# Altium schematic symbol library Connectors.SchLib: 84 symbols
Pins are listed as number, name and electrical type; pins without a type are passive.

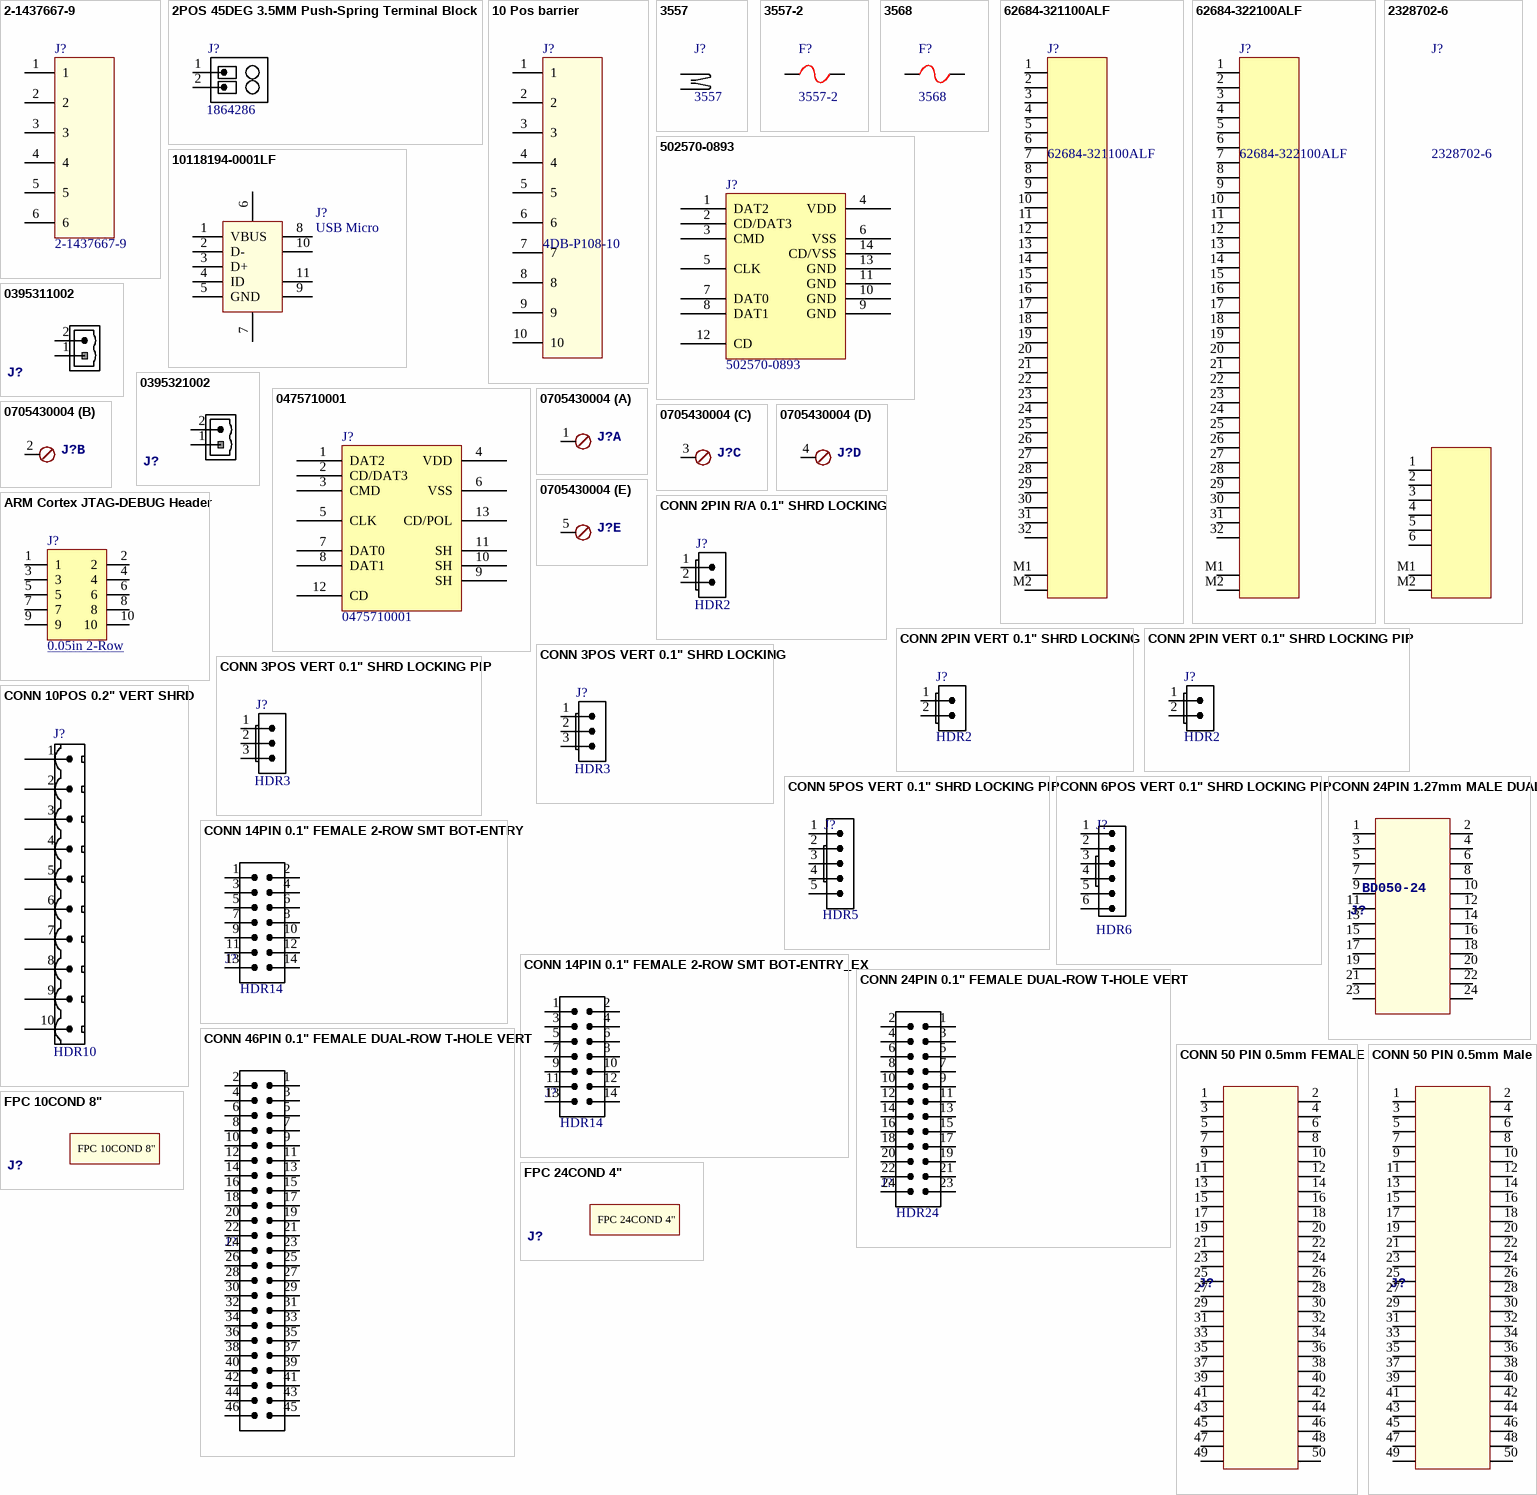
[diagram p0: symbols 2-1437667-9 to FPC 24COND 4"]

## 2-1437667-9
designator J?
CONN BARRIER STRIP 6CIRC 0.325"; MANUFACTURER #: 4DB-P108-06; Manufacturer: TE; PART: 6POS; Part Description: 6 Circuit 0.325" (8.26mm) Barrier Block Connector, Screws with Captive Plate; EE_SPEC: 150V 2A; Tolerance: NA; VALUE: 6POS; DISTRIBUTOR #: A98476-ND; DISTRIBUTOR: Digi-Key
footprint CON-Barrier-6-8.26mm
pins: 1, 2, 3, 4, 5, 6

## 2POS 45DEG 3.5MM Push-Spring Terminal Block
designator J?, comment 1864286
TERM BLOCK 2POS 45DEG 3.5MM PCB; MANUFACTURER: Phoenix Contact; PART DESCRIPTION: 2 Positions Header Connector 0.100" (2.54mm) Through Hole, Right Angle Gold; TOLERANCE: -NA-; MANUFACTURER #: 1864286; DISTRIBUTOR #: 277-12184-ND; DISTRIBUTOR: Digikey; PART: 1864286; EE_SPEC: -NA-; VALUE: 1864286
footprint 1864286 (TERM BLOCK 2POS 45DEG 3.5MM PCB)
pins: 1 S, 2 S

## 10 Pos barrier
designator J?, comment 4DB-P108-10
CONN BARRIER STRIP 10CIRC 0.325"; Manufacturer: TE; Part Description: 10 Circuit 0.325" (8.26mm) Barrier Block Connector, Screws with Captive Plate; EE_SPEC: 150V 2A; Tolerance: NA; DISTRIBUTOR: Digi-Key; MANUFACTURER #: 4DB-P108-10; VALUE: 4DB-P108-10
footprint CON-Barrier-10-8.26mm
pins: 1, 2, 3, 4, 5, 6, 7, 8, 9, 10

## 3557
designator J?
FUSE CLIP BLADE 500V 30A PCB; MANUFACTURER: Keystone; PART DESCRIPTION: Fuse Clip 30A 500V 1 Circuit Blade PCB; TOLERANCE: -NA-; VALUE: -NA-; MANUFACTURER #: 3557; DISTRIBUTOR #: 36-3557-ND; DISTRIBUTOR: Digikey; PART: Fuse Clip; EE_SPEC: 500V 30A
pins: 1, 2

## 3557-2
designator F?
FUSE PTH ATO; MANUFACTURER: Keystone; PART: Fuse Holder; PART DESCRIPTION: Fuse Block 30A 500V 1 Circuit Blade PCB; TOLERANCE: -NA-; VALUE: -NA-; EE_SPEC: 500V; MANUFACTURER #: 3557-2; DISTRIBUTOR #: 36-3557-2-ND; DISTRIBUTOR: Digikey
footprint 3557
pins: 1, 2

## 3568
designator F?
MINI FUSE HOLDER BLADE 500V 20A PCB; MANUFACTURER: Keystone; PART DESCRIPTION: Fuse Holder 30A 500V 1 Circuit Blade PCB; TOLERANCE: -NA-; VALUE: -NA-; MANUFACTURER #: 3568; DISTRIBUTOR: Digikey; PART: FUSE HOLDER BLADE 500V 20A PCB; EE_SPEC: 500V 20A
footprint 3568
pins: 1, 2

## 62684-321100ALF
designator J?
CONN FPC BOT 32POS 0.5mm RA; MANUFACTURER: Amphenol; PART DESCRIPTION: 32 Position FPC Connector Contacts, Top 0.020" (0.50mm) Surface Mount, Right Angle; MANUFACTURER #: 62684-321100ALF; PART: 62684-321100ALF; VALUE: CONN FPC BOT 32Pos
footprint 62684-32____ALF (FFC & FPC Connectors 0.5MM FFC OPU CONN)
signal-integrity model Connector
pins: 1, 2 (power) "1", 3 (power) "1", 4 (power) "1", 5 (power) "1", 6 (power) "1", 7 (power) "1", 8 (power) "1", 9 (power) "1", 10 (power) "1", 11 (power) "1", 12 (power) "1", 13 (power) "1", 14 (power) "1", 15 (power) "1", 16 (power) "1", 17 (power) "1", 18 (power) "1", 19 (power) "1", 20 (power) "1", 21 (power) "1", 22 (power) "1", 23 (power) "1", 24 (power) "1", 25 (power) "1", 26 (power) "1", 27 (power) "1", 28 (power) "1", 29 (power) "1", 30 (power) "1", 31 (power) "1", 32 (power) "1", M1 (power) "1", M2 (power) "1"

## 62684-322100ALF
designator J?
CONN FPC TOP 32POS 0.5mm RA; MANUFACTURER: Amphenol; PART DESCRIPTION: 32 Position FPC Connector Contacts, Top 0.020" (0.50mm) Surface Mount, Right Angle; VALUE: CONN FPC 32Pos; MANUFACTURER #: 62684-322100ALF; PART: 62684-322100ALF
footprint 62684-32____ALF (FFC & FPC Connectors 0.5MM FFC OPU CONN)
signal-integrity model Connector
pins: 1, 2 (power) "1", 3 (power) "1", 4 (power) "1", 5 (power) "1", 6 (power) "1", 7 (power) "1", 8 (power) "1", 9 (power) "1", 10 (power) "1", 11 (power) "1", 12 (power) "1", 13 (power) "1", 14 (power) "1", 15 (power) "1", 16 (power) "1", 17 (power) "1", 18 (power) "1", 19 (power) "1", 20 (power) "1", 21 (power) "1", 22 (power) "1", 23 (power) "1", 24 (power) "1", 25 (power) "1", 26 (power) "1", 27 (power) "1", 28 (power) "1", 29 (power) "1", 30 (power) "1", 31 (power) "1", 32 (power) "1", M1 (power) "1", M2 (power) "1"

## 502570-0893
designator J?
microSD 502570-0893 Molex Part; MANUFACTURER #: 5025700893; PART: CONN Micro SD; PART DESCRIPTION: 10 (8 + 2) Position Card Connector Secure Digital - microSD™ Surface Mount, Right Angle Gold; TOLERANCE: -NA-; VALUE: SD Conn; MANUFACTURER: Molex; DISTRIBUTOR #: WM19093TR-ND; DISTRIBUTOR: Digikey; EE_SPEC: -NA-
footprint 502570-0893 - Molex SD (Footprint not found)
pins: 1 DAT2, 2 CD/DAT3, 3 CMD, 4 VDD, 5 CLK, 6 VSS, 7 DAT0, 8 DAT1, 9 GND, 10 GND, 11 GND, 12 CD, 13 GND, 14 CD/VSS (power)

## 2328702-6
designator J?
CONN FPC BOTH 6 POS 0.5mm RA; MANUFACTURER: TE; PART DESCRIPTION: 6 Position FPC Connector Contacts, Top 0.020" (0.50mm) Surface Mount, Right Angle; VALUE: CONN FPC 6Pos; MANUFACTURER #: 2328702-6; PART: 2328702-6
footprint 2328702-6
signal-integrity model Connector
pins: 1, 2 (power) "1", 3 (power) "1", 4 (power) "1", 5 (power) "1", 6 (power) "1", M1 (power) "1", M2 (power) "1"

## 10118194-0001LF
designator J?, comment USB Micro
Conn Recept USB - micro B 2.0 5 Pos SMT, Rt Angle, Horizontal
footprint 10118194-0001LF
pins: 1 VBUS (power), 2 D- (power), 3 D+ (power), 4 ID (power), 5 GND (power), 6 (power), 7 (power), 8 (power), 9 (power), 10 (power), 11 (power)

## 0395311002
designator J?  (value not drawn)
Conn - 5.08mm Pitch Fixed; MANUFACTURER: Molex; PART: 2POS; Part Description: 2 Position Terminal Block Header, Male Pins, Shrouded (4 Side) 0.200" (5.08mm) Vertical Through Hole; EE_SPEC: 300V 15A 0.2"; Tolerance: NA; Value: 0395311002; DISTRIBUTOR #: WM7837-ND; DISTRIBUTOR: Digi-Key; MANUFACTURER #: 0395311002
footprint MSTBV2
pins: 1, 2

## 0395321002
designator J?, comment 0395311002  (value not drawn)
Conn - 5.08mm Pitch Fixed; MANUFACTURER: Molex; MANUFACTURER #: 0395321002; PART: 2POS; Part Description: 2 Position Terminal Block Header, Male Pins, Shrouded (4 Side) 0.200" (5.08mm) Vertical Through Hole; EE_SPEC: 300V 15A 0.2"; Tolerance: NA; Value: 0395311002
footprint MSTBH2 (Pluggable terminal block-5.08mm pitch - Horizontal)
pins: 1, 2

## 0475710001
designator J?
microSD 0475710001Molex Part; MANUFACTURER: Molex; PART: CONN Micro SD; PART DESCRIPTION: 10 (8 + 2) Position Card Connector Secure Digital - microSD™ Surface Mount, Right Angle Gold; TOLERANCE: -NA-; VALUE: SD Conn; MANUFACTURER #: 0475710001; DISTRIBUTOR #: WM9731TR-ND; DISTRIBUTOR: Digikey; EE_SPEC: -NA-
footprint SD_MICRO 475710001 (CONN MICRO SD CARD PUSH-PULL R/A Half length)
pins: 1 DAT2, 2 CD/DAT3, 3 CMD, 4 VDD, 5 CLK, 6 VSS, 7 DAT0, 8 DAT1, 9 SH, 10 SH, 11 SH, 12 CD, 13 CD/POL

## 0705430004
designator J?  (value not drawn)
5pos Latching 2.54mm; MANUFACTURER: Molex; PART: 5 Pin Conn; PART DESCRIPTION: 5 Positions Header, Shrouded Connector 0.100" (2.54mm) Through Hole Gold; TOLERANCE: -NA-; VALUE: HDR5; MANUFACTURER #: 0705430004; DISTRIBUTOR #: WM4803-ND; DISTRIBUTOR: Digikey; EE_SPEC: -NA-
footprint 5POL254
part A pins: 1
part B pins: 2 1
part C pins: 3 1
part D pins: 4 1
part E pins: 5 1

## ARM Cortex JTAG-DEBUG Header
designator J?, comment 0.05in 2-Row
20021121-00010C4LF; MANUFACTURER: Amphenol FCI; PART: 10 Pin Conn 2Row SMT; PART DESCRIPTION: 10 Positions Header, Unshrouded Connector 0.050" (1.27mm) Surface Mount Gold; TOLERANCE: -NA-; VALUE: HDR10; MANUFACTURER #: 20021121-00010C4LF; DISTRIBUTOR #: 609-3695-2-ND; DISTRIBUTOR: Digikey; EE_SPEC: -NA-
footprint FTSH-105-XX-X-DV (1.27mm pitch, 10 pin, terminal strip; vertical, SMT)
pins: 1, 2, 3, 4, 5, 6, 7, 8, 9, 10

## CONN 2PIN R/A 0.1" SHRD LOCKING
designator J?, comment HDR2
CONN HEADER 2POS .100 R/A GOLD; MANUFACTURER: Molex; MANUFACTURER #: 0705530001; PART DESCRIPTION: 2 Positions Header Connector 0.100" (2.54mm) Through Hole, Right Angle Gold; TOLERANCE: -NA-; DISTRIBUTOR #: WM4900-ND; DISTRIBUTOR: Digikey; PART: 0705530001; EE_SPEC: -NA-; VALUE: HDR2
footprint 70553-02
pins: 1 S, 2 S

## CONN 2PIN VERT 0.1" SHRD LOCKING
designator J?  value HDR2  (hidden comment: CONN 2PIN VERT 0.1" SHRD LOCKING)
Connector 2pos; MANUFACTURER: Molex; MANUFACTURER #: 0705430001; PART: 2 Pin Conn; PART DESCRIPTION: 2 Positions Header, Shrouded Connector 0.100" (2.54mm) Through Hole Gold; TOLERANCE: -NA-; DISTRIBUTOR #: WM4800-ND; DISTRIBUTOR: Digikey; EE_SPEC: -NA-
footprint 70543-02
pins: 1 S, 2 S

## CONN 2PIN VERT 0.1" SHRD LOCKING PIP
designator J?, comment value HDR2  (hidden comment: CONN 2PIN VERT 0.1" SHRD LOCKING)
Connector 2pos - Pin in Paste; MANUFACTURER: Molex; MANUFACTURER #: 0705430001; PART: 2 Pin Conn; PART DESCRIPTION: 2 Positions Header, Shrouded Connector 0.100" (2.54mm) Through Hole Gold; TOLERANCE: -NA-; DISTRIBUTOR #: WM4800-ND; DISTRIBUTOR: Digikey; EE_SPEC: -NA-
footprint 70543-01 PIN-IN-PASTE
pins: 1 S, 2 S

## CONN 3POS VERT 0.1" SHRD LOCKING
designator J?, comment value HDR3  (hidden comment: Molex 70543-03)
3 Positions Header, Shrouded Connector 0.100" (2.54mm) Through Hole Gold; MANUFACTURER #: 0705430002; PART: 3 Pin Conn VERT; TOLERANCE: -NA-; MANUFACTURER: Molex; DISTRIBUTOR #: WM4801-ND; DISTRIBUTOR: Digikey; PART DESCRIPTION: 3 Positions Header, Shrouded Connector 0.100" (2.54mm) Through Hole Gold; EE_SPEC: -NA-
footprint 70543-03
pins: 1 S, 2 S, 3 S

## CONN 3POS VERT 0.1" SHRD LOCKING PIP
designator J?, comment value HDR3  (hidden comment: Molex 70543-02)
3 Positions Header, Shrouded Connector 0.100" (2.54mm) Through Hole Gold - Pin in Paste; MANUFACTURER #: 0705430002; PART: 3 Pin Conn VERT; TOLERANCE: -NA-; MANUFACTURER: Molex; DISTRIBUTOR #: WM4801-ND; DISTRIBUTOR: Digikey; PART DESCRIPTION: 3 Positions Header, Shrouded Connector 0.100" (2.54mm) Through Hole Gold; EE_SPEC: -NA-
footprint 70543-02 PIN-IN-PASTE
pins: 1 S, 2 S, 3 S

## CONN 5POS VERT 0.1" SHRD LOCKING PIP
designator J?, comment value HDR5  (hidden comment: Molex 70543-04)
5 Positions Header, Shrouded Connector 0.100" (2.54mm) Through Hole Gold - Pin in Paste; MANUFACTURER #: 0705430004; PART: 5 Pin Conn VERT; TOLERANCE: -NA-; MANUFACTURER: Molex; PART DESCRIPTION: 5 Positions Header, Shrouded Connector 0.100" (2.54mm) Through Hole Gold; EE_SPEC: -NA-
footprint 70543-04_PIN-IN-PASTE
pins: 1, 2, 3, 4, 5

## CONN 6POS VERT 0.1" SHRD LOCKING PIP
designator J?, comment value HDR6  (hidden comment: Molex 70543-05)
6 Positions Header, Shrouded Connector 0.100" (2.54mm) Through Hole Gold - Pin in Paste; MANUFACTURER #: 0705430005; PART: 6 Pin Conn VERT; TOLERANCE: -NA-; MANUFACTURER: Molex; PART DESCRIPTION: 6 Positions Header, Shrouded Connector 0.100" (2.54mm) Through Hole Gold; EE_SPEC: -NA-
footprint 70543-05_PIN-IN-PASTE
pins: 1, 2, 3, 4, 5, 6

## CONN 10POS 0.2" VERT SHRD
designator J?, comment value HDR10  (hidden comment: Molex 0395311010)
MSBTV10 10 port connector same as RAMBo; PART: CONN TERM BLOCK HDR 10POS VERT 5.08MM; PART DESCRIPTION: 10 Position Terminal Block Header, Male Pins, Shrouded (4 Side) 0.200" (5.08mm) Vertical Through Hole; TOLERANCE: -NA-; MANUFACTURER #: 0395311010; MANUFACTURER: Molex; DISTRIBUTOR #: WM7843-ND; DISTRIBUTOR: Digikey; EE_SPEC: -NA-
footprint MSTBV10
pins: 1, 2, 3, 4, 5, 6, 7, 8, 9, 10

## CONN 14PIN 0.1" FEMALE 2-ROW SMT BOT-ENTRY
designator J?, comment HDR14
CONN RCPT DUAL ENTRY 14POS .100"; MANUFACTURER: TE Connectivity; MANUFACTURER #: 969973-7; PART DESCRIPTION: 14 Position Receptacle, Bottom or Top Entry Connector Gold 0.100" (2.54mm) Surface Mount; TOLERANCE: -NA-; DISTRIBUTOR #: A107060CT-ND; DISTRIBUTOR: Digikey; PART: HDR14; EE_SPEC: -NA-; VALUE: HDR14
footprint HDR2x7_SMT_BOT_ENTRY
pins: 1 S, 2 S, 3 S, 4 S, 5 S, 6 S, 7 S, 8 S, 9 S, 10 S, 11 S, 12 S, 13 S, 14 S

## CONN 14PIN 0.1" FEMALE 2-ROW SMT BOT-ENTRY_EX
designator J?, comment HDR14
CONN RCPT DUAL ENTRY 14POS .100"; MANUFACTURER: TE Connectivity; MANUFACTURER #: 969973-7; PART DESCRIPTION: 14 Position Receptacle, Bottom or Top Entry Connector Gold 0.100" (2.54mm) Surface Mount; TOLERANCE: -NA-; DISTRIBUTOR #: A107060CT-ND; DISTRIBUTOR: Digikey; PART: HDR14; EE_SPEC: -NA-; VALUE: HDR14
footprint HDR2x7_SMT_BOT_ENTRY_EX
pins: 1 S, 2 S, 3 S, 4 S, 5 S, 6 S, 7 S, 8 S, 9 S, 10 S, 11 S, 12 S, 13 S, 14 S

## CONN 24PIN 0.1" FEMALE DUAL-ROW T-HOLE VERT
designator J?, comment HDR24
Board-To-Board Connector, 2.54 mm, 12 Contacts, Receptacle, 2214S Series, Through Hole, 2 Rows; MANUFACTURER: MultiComp; MANUFACTURER #: 2214S-12SG-85; PART: 24 Pin Conn; TOLERANCE: -NA-; DISTRIBUTOR #: 08N6808; DISTRIBUTOR: Newark; PART DESCRIPTION: Board-To-Board Connector, 2.54 mm, 12 Contacts, Receptacle, 2214S Series, Through Hole, 2 Rows; EE_SPEC: -NA-; VALUE: HDR24
footprint HDR26-2-100MIL
pins: 1 S, 2 S, 3 S, 4 S, 5 S, 6 S, 7 S, 8 S, 9 S, 10 S, 11 S, 12 S, 13 S, 14 S, 15 S, 16 S, 17 S, 18 S, 19 S, 20 S, 21 S, 22 S, 23 S, 24 S

## CONN 24PIN 1.27mm MALE DUAL
designator J?, comment BD050-24
24pin 1.27mm Female SMT-w/pin; MANUFACTURER: GCT; MANUFACTURER #: BD050-24-A-1-0450-L-B; EE_SPEC: 500V 1A 1.27mm; Value: BD050-24; PART: BD050-24-A-1-0450-L-B; Part Description: 24pin 1.27mm Female SMT-w/pin
footprint HDR2X12 Female SMT w/pin (24pin 1.27mm Female SMT-w/pin)
pins: 1 (power), 2 (power) "1", 3 (power) "1", 4 (power) "1", 5 (power) "1", 6 (power) "1", 7 (power) "1", 8 (power) "1", 9 (power) "1", 10 (power) "1", 11 (power) "1", 12 (power) "1", 13 (power) "1", 14 (power) "1", 15 (power) "1", 16 (power) "1", 17 (power) "1", 18 (power) "1", 19 (power) "1", 20 (power) "1", 21 (power) "1", 22 (power) "1", 23 (power) "1", 24 (power) "1"

## CONN 46PIN 0.1" FEMALE DUAL-ROW T-HOLE VERT
designator J?, comment HDR46  (value not drawn)
MANUFACTURER #: NOTAPART - CONN PLACE HOLDER
pins: 1 S, 2 S, 3 S, 4 S, 5 S, 6 S, 7 S, 8 S, 9 S, 10 S, 11 S, 12 S, 13 S, 14 S, 15 S, 16 S, 17 S, 18 S, 19 S, 20 S, 21 S, 22 S, 23 S, 24 S, 25 S, 26 S, 27 S, 28 S, 29 S, 30 S, 31 S, 32 S, 33 S, 34 S, 35 S, 36 S, 37 S, 38 S, 39 S, 40 S, 41 S, 42 S, 43 S, 44 S, 45 S, 46 S

## CONN 50 PIN 0.5mm FEMALE
designator J?
50 Position Connector Plug, Outer Shroud Contacts Surface Mount Gold; MANUFACTURER #: 10132797-055100LF; EE_SPEC: 500V 1A 1.27mm; PART: 10132797-055100LF; Part Description: 50 Position Connector Plug, Outer Shroud Contacts Surface Mount Gold
footprint BTB 0.5mm 50pin-Female
pins: 1 (power), 2 (power) "1", 3 (power) "1", 4 (power) "1", 5 (power) "1", 6 (power) "1", 7 (power) "1", 8 (power) "1", 9 (power) "1", 10 (power) "1", 11 (power) "1", 12 (power) "1", 13 (power) "1", 14 (power) "1", 15 (power) "1", 16 (power) "1", 17 (power) "1", 18 (power) "1", 19 (power) "1", 20 (power) "1", 21 (power) "1", 22 (power) "1", 23 (power) "1", 24 (power) "1", 25 (power) "1", 26 (power) "1", 27 (power) "1", 28 (power) "1", 29 (power) "1", 30 (power) "1", 31 (power) "1", 32 (power) "1", 33 (power) "1", 34 (power) "1", 35 (power) "1", 36 (power) "1", 37 (power) "1", 38 (power) "1", 39 (power) "1", 40 (power) "1", 41 (power) "1", 42 (power) "1", 43 (power) "1", 44 (power) "1", 45 (power) "1", 46 (power) "1", 47 (power) "1", 48 (power) "1", 49 (power) "1", 50 (power) "1"

## CONN 50 PIN 0.5mm Male
designator J?
50 Position Connector Plug, Outer Shroud Contacts Surface Mount Gold; MANUFACTURER #: 10132798-052100LF; EE_SPEC: 500V 1A 1.27mm; PART: 10132798-052100LF; Part Description: 50 Position Connector Plug, Outer Shroud Contacts Surface Mount Gold
footprint BTB 0.5mm 50pin-Male
pins: 1 (power), 2 (power) "1", 3 (power) "1", 4 (power) "1", 5 (power) "1", 6 (power) "1", 7 (power) "1", 8 (power) "1", 9 (power) "1", 10 (power) "1", 11 (power) "1", 12 (power) "1", 13 (power) "1", 14 (power) "1", 15 (power) "1", 16 (power) "1", 17 (power) "1", 18 (power) "1", 19 (power) "1", 20 (power) "1", 21 (power) "1", 22 (power) "1", 23 (power) "1", 24 (power) "1", 25 (power) "1", 26 (power) "1", 27 (power) "1", 28 (power) "1", 29 (power) "1", 30 (power) "1", 31 (power) "1", 32 (power) "1", 33 (power) "1", 34 (power) "1", 35 (power) "1", 36 (power) "1", 37 (power) "1", 38 (power) "1", 39 (power) "1", 40 (power) "1", 41 (power) "1", 42 (power) "1", 43 (power) "1", 44 (power) "1", 45 (power) "1", 46 (power) "1", 47 (power) "1", 48 (power) "1", 49 (power) "1", 50 (power) "1"

## FPC 10COND 8"
designator J?, comment FPC  (value not drawn)  (mechanical)
CABLE FFC 10POS 1.00MM 8"; MANUFACTURER: Molex; MANUFACTURER #: 0152670259; Part Description: 10 Position FFC, FPC Cable 0.039" (1.00mm) 8.000" (203.20mm); Tolerance: NA; Value: FPC; DISTRIBUTOR #: WM15787-ND; DISTRIBUTOR: Digi-Key; PART: FPC

## FPC 24COND 4"
designator J?, comment FPC  (value not drawn)  (mechanical)
CABLE FFC 24POS 1.00MM 4"; MANUFACTURER: Molex; MANUFACTURER #: 0152670405; Part Description: 24 Position FFC, FPC Cable 0.039" (1.00mm) 4.000" (101.60mm); Tolerance: NA; Value: FPC; DISTRIBUTOR #: WM16083-ND; DISTRIBUTOR: Digi-Key; PART: FPC

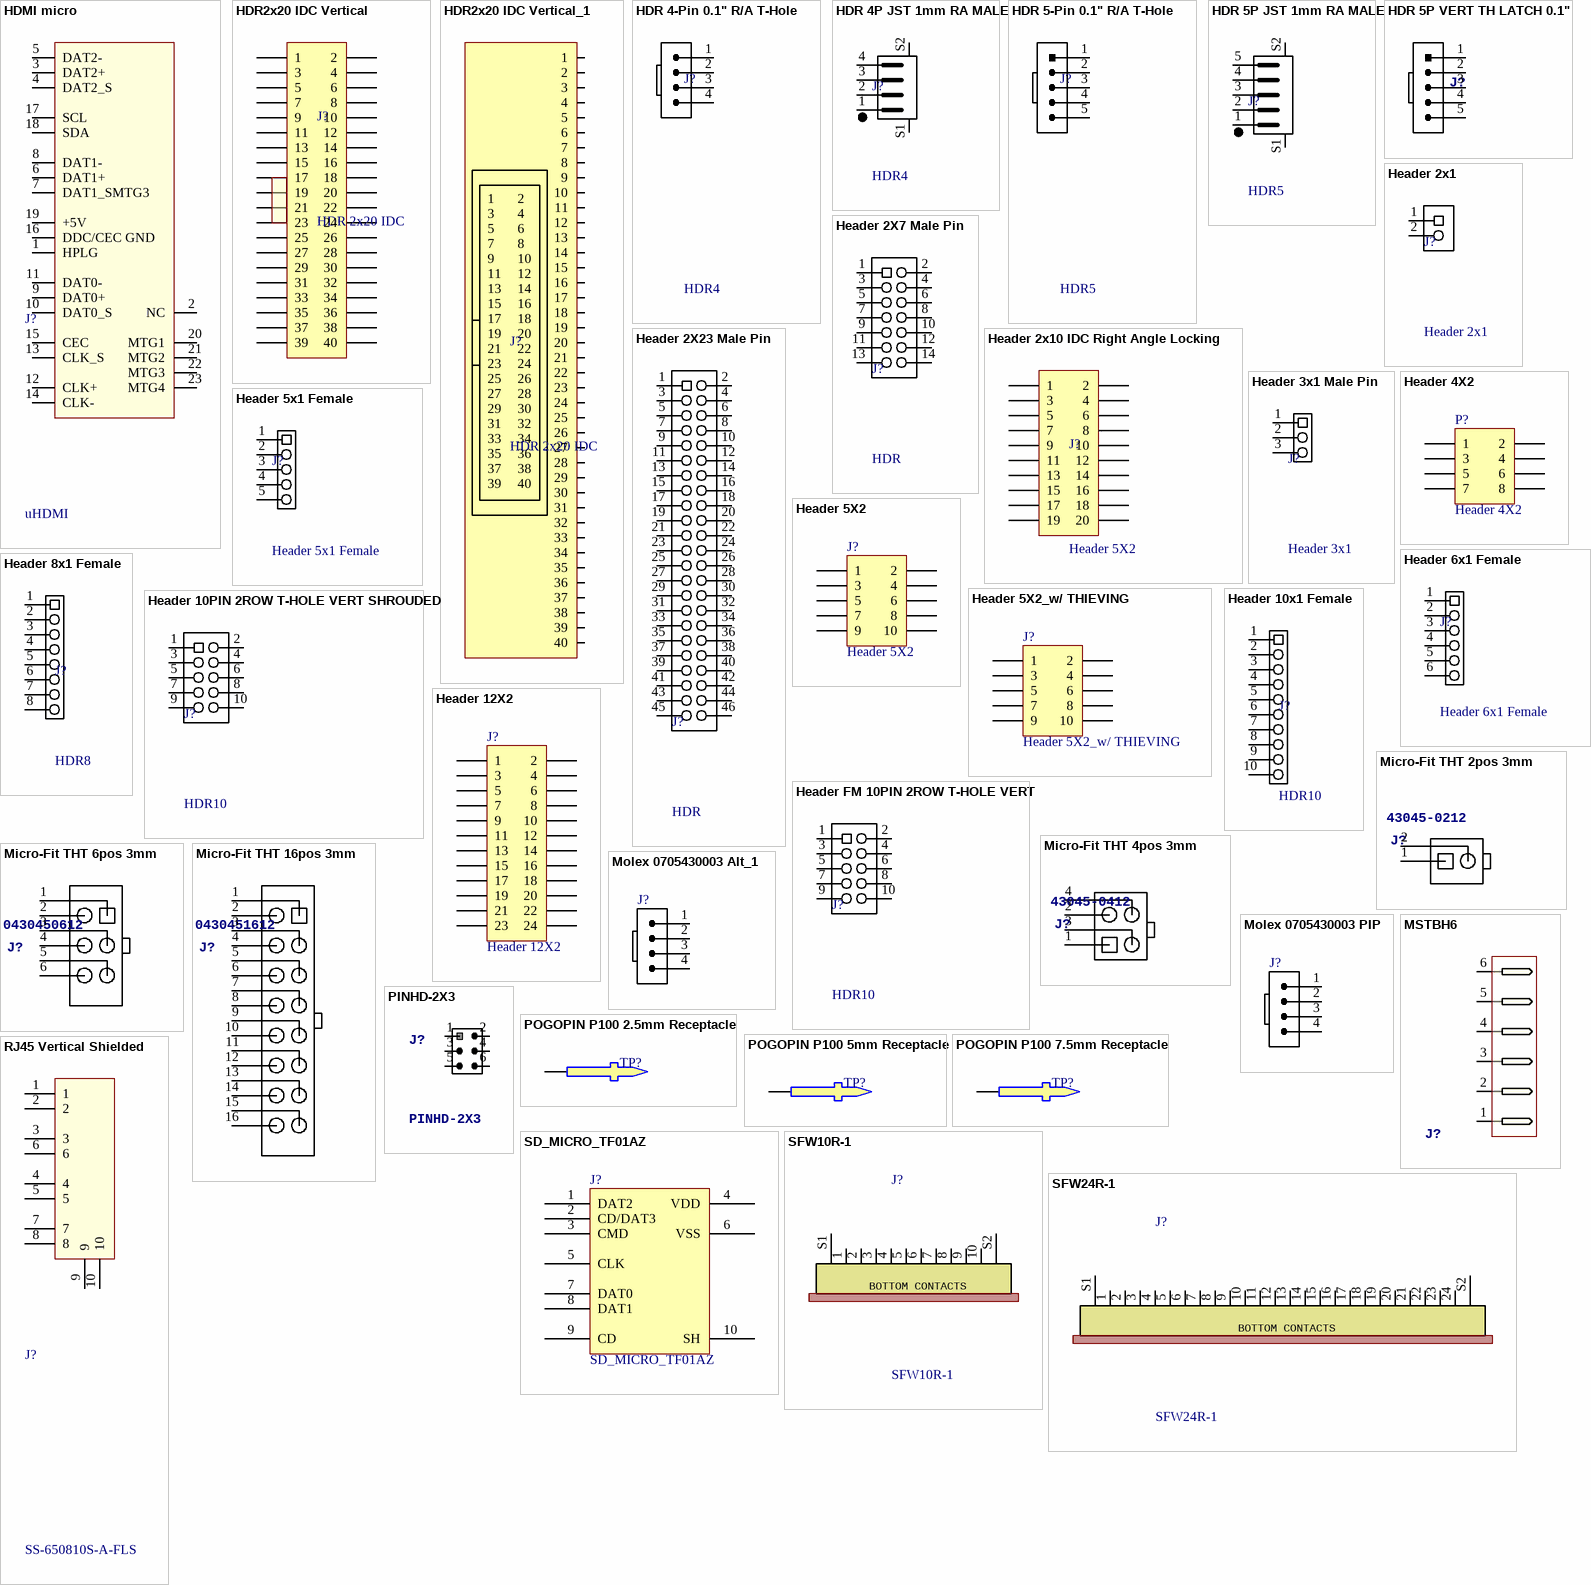
[diagram p1: symbols HDMI micro to SFW24R-1]

## HDMI micro
designator J?, comment uHDMI
CONN HDMI RECPT 19POS SMT R/A; MANUFACTURER #: 10118242-001RLF; Manufacturer: Amphenol; Part Description: HDMI - Micro Receptacle Connector 19 Position Surface Mount, Right Angle; Through Hole; Tolerance: NA; DISTRIBUTOR #: 609-4617-2-ND; DISTRIBUTOR: Digi-Key; PART: uHDMI
footprint HDMI_MICRO
pins: 1 HPLG, 2 NC, 3 DAT2+, 4 DAT2_S, 5 DAT2-, 6 DAT1+, 7 DAT1_SMTG3, 8 DAT1-, 9 DAT0+, 10 DAT0_S, 11 DAT0-, 12 CLK+, 13 CLK_S, 14 CLK-, 15 CEC, 16 DDC/CEC GND, 17 SCL, 18 SDA, 19 +5V, 20 MTG1, 21 MTG2, 22 MTG3, 23 MTG4

## HDR2x20 IDC Vertical
designator J?, comment HDR 2x20 IDC
CONN HEADER VERT 40POS 2.54MM; MANUFACTURER #: SBH11-PBPC-D20-ST-BK; MANUFACTURER: Sullins; PART DESCRIPTION: Connector Header Through Hole 40 position 0.100" (2.54mm); EE_SPEC: -NA-; PART: SBH11-PBPC-D20-ST-BK; VALUE: HDR 2x20 IDC
footprint HDR2X20 IDC Vertical
pins: 1, 2, 3, 4, 5, 6, 7, 8, 9, 10, 11, 12, 13, 14, 15, 16, 17, 18, 19, 20, 21 (power) "1", 22 (power) "1", 23 (power) "1", 24 (power) "1", 25 (power) "1", 26 (power) "1", 27 (power) "1", 28 (power) "1", 29 (power) "1", 30 (power) "1", 31 (power) "1", 32 (power) "1", 33 (power) "1", 34 (power) "1", 35 (power) "1", 36 (power) "1", 37 (power) "1", 38 (power) "1", 39 (power) "1", 40 (power) "1"

## HDR2x20 IDC Vertical_1
designator J?, comment HDR 2x20 IDC
CONN HEADER VERT 40POS 2.54MM; MANUFACTURER #: SBH11-PBPC-D20-ST-BK; MANUFACTURER: Sullins; PART DESCRIPTION: Connector Header Through Hole 40 position 0.100" (2.54mm); EE_SPEC: -NA-; PART: SBH11-PBPC-D20-ST-BK; VALUE: HDR 2x20 IDC
footprint HDR2X20 IDC Vertical
pins: 1, 2, 3, 4, 5, 6, 7, 8, 9, 10, 11, 12, 13, 14, 15, 16, 17, 18, 19, 20, 21 (power) "1", 22 (power) "1", 23 (power) "1", 24 (power) "1", 25 (power) "1", 26 (power) "1", 27 (power) "1", 28 (power) "1", 29 (power) "1", 30 (power) "1", 31 (power) "1", 32 (power) "1", 33 (power) "1", 34 (power) "1", 35 (power) "1", 36 (power) "1", 37 (power) "1", 38 (power) "1", 39 (power) "1", 40 (power) "1"

## HDR 4-Pin 0.1" R/A T-Hole
designator J?, comment HDR4
CONN HEADER 4POS .100 R/A 15AU; MANUFACTURER #: 0705550038; MANUFACTURER: Molex; PART DESCRIPTION: 4 Positions Header Connector 0.100" (2.54mm) Through Hole, Right Angle Gold; TOLERANCE: -NA-; DISTRIBUTOR #: WM4177-ND; DISTRIBUTOR: Digikey; PART: HDR4; VALUE: HDR4
footprint 4POL254_R/A
pins: 1, 2, 3, 4

## HDR 4P JST 1mm RA MALE
designator J?, comment HDR4
CONN HEADER SH 4POS SIDE 1MM TIN; MANUFACTURER #: SM04B-SRSS-TB(LF)(SN); MANUFACTURER: JST; PART DESCRIPTION: 4 Positions Header Connector 0.039" (1.00mm) Surface Mount, Right Angle Tin; TOLERANCE: -NA-; DISTRIBUTOR #: 455-1804-2-ND; DISTRIBUTOR: Digikey; PART: HDR4; VALUE: HDR4; EE_SPEC: -NA-
footprint HDR_1X4_JST
pins: 1, 2, 3, 4, S1, S2

## HDR 5-Pin 0.1" R/A T-Hole
designator J?, comment HDR5
SL R/A LATCH HEADER GOLD 5POS; MANUFACTURER #: 0705550039; MANUFACTURER: Molex; PART DESCRIPTION: 5 Positions Header Connector 0.100" (2.54mm) Through Hole, Right Angle Gold; TOLERANCE: -NA-; EE_SPEC: 0.38um Gold, Tin tail, 250V; DISTRIBUTOR #: WM14060-ND; DISTRIBUTOR: Digikey; PART: HDR5; VALUE: HDR5
footprint 5POL254_R/A
pins: 1, 2, 3, 4, 5

## HDR 5P JST 1mm RA MALE
designator J?, comment HDR5
CONN HEADER SH 5POS SIDE 1MM TIN; MANUFACTURER #: SM05B-SRSS-TB(LF)(SN); MANUFACTURER: JST; PART DESCRIPTION: 5 Positions Header Connector 0.039" (1.00mm) Surface Mount, Right Angle Tin; TOLERANCE: -NA-; DISTRIBUTOR #: 455-1805-2-ND; DISTRIBUTOR: Digikey; PART: HDR5; VALUE: HDR5; EE_SPEC: -NA-
footprint HDR_1X5_JST
pins: 1, 2, 3, 4, 5, S1, S2

## HDR 5P VERT TH LATCH 0.1"
designator J?  (value not drawn)
5pos Latching 2.54mm; MANUFACTURER: Molex; MANUFACTURER #: 0705430004; PART: 5 Pin Conn; PART DESCRIPTION: 5 Positions Header, Shrouded Connector 0.100" (2.54mm) Through Hole Gold; TOLERANCE: -NA-; VALUE: HDR5; DISTRIBUTOR #: WM4803-ND; DISTRIBUTOR: Digikey; EE_SPEC: -NA-
footprint 5POL254
pins: 1, 2, 3, 4, 5

## Header 2x1
designator J?
Header 2Pin 1Row T-Hole; MANUFACTURER #: 2211S-02G; MANUFACTURER: Multicomp; PART: CONN 2Pin 1Row 0.1"; PART DESCRIPTION: MULTICOMP  2211S-02G  Board-To-Board Connector, 2.54 mm, 2 Contacts, Header, 2211S Series, Through Hole, 1 Rows; TOLERANCE: -NA-; VALUE: JMP; DISTRIBUTOR #: 08N6744; DISTRIBUTOR: Newark; EE_SPEC: -NA-
footprint HDR2X1 (Connector; Header; 2X1 Position)
footprint HDR2X1 (Connector; Header; 2X1 Position)
pins: 1, 2

## Header 2X7 Male Pin
designator J?, comment HDR
CONN HEADER .100" DUAL STR 14POS; MANUFACTURER #: PRPC007DAAN-RC; MANUFACTURER: Sullins; PART DESCRIPTION: 14 Positions Header, Breakaway Connector 0.100" (2.54mm) Through Hole Gold; TOLERANCE: -NA-; DISTRIBUTOR #: S2011EC-07-ND; DISTRIBUTOR: Newark; VALUE: HDR; EE_SPEC: -NA-
footprint HDR2X7 (Connector; Header; 5x2 Position)
pins: 1, 2, 3, 4, 5, 6, 7, 8, 9, 10, 11, 12, 13, 14

## Header 2x10 IDC Right Angle Locking
designator J?, comment Header 5X2
Header 2x10 IDC Right Angle Locking; MANUFACTURER #: 3428-5003; MANUFACTURER: 3M; EE_SPEC: -NA-; PART DESCRIPTION: Header 2x10 IDC Right Angle Locking
footprint HDR2X10 IDC Right Angle Locking (Connector; Header; 2x10 Position Right Angle Locking)
signal-integrity model Connector
pins: 1, 2, 3, 4, 5, 6, 7, 8, 9, 10, 11, 12, 13, 14, 15, 16, 17, 18, 19, 20

## Header 2X23 Male Pin
designator J?, comment HDR
CONN HEADER .100" DUAL STR 46POS; MANUFACTURER #: PRPC023DAAN-RC; MANUFACTURER: Sullins; PART DESCRIPTION: 46 Positions Header, Breakaway Connector 0.100" (2.54mm) Through Hole Gold; TOLERANCE: -NA-; DISTRIBUTOR #: S2011EC-23-ND; DISTRIBUTOR: Newark; VALUE: HDR; EE_SPEC: -NA-
footprint HDR2X23 (Connector; Header; 12x2 Position)
pins: 1, 2, 3, 4, 5, 6, 7, 8, 9, 10, 11, 12, 13, 14, 15, 16, 17, 18, 19, 20, 21, 22, 23, 24, 25, 26, 27, 28, 29, 30, 31, 32, 33, 34, 35, 36, 37, 38, 39, 40, 41, 42, 43, 44, 45, 46

## Header 3x1 Male Pin
designator J?, comment Header 3x1
Header 3Pin 1Row T-Hole; MANUFACTURER #: 2211S-03G; MANUFACTURER: Multicomp; PART: CONN 3Pin 1Row 0.1"; PART DESCRIPTION: MULTICOMP  2211S-03G  Board-To-Board Connector, 2.54 mm, 3 Contacts, Header, 2211S Series, Through Hole, 1 Rows; TOLERANCE: -NA-; VALUE: JMP; DISTRIBUTOR #: 08N6745; DISTRIBUTOR: Newark; EE_SPEC: -NA-
footprint HDR3X1 (Connector; Header; 2X1 Position)
pins: 1, 2, 3

## Header 4X2
designator P?
Header, 4-Pin, Dual row; MANUFACTURER #: 2213S-08G; MANUFACTURER: Multicomp; PART: CONN 8Pin 2Row 0.1"; PART DESCRIPTION: Board-To-Board Connector, 2.54 mm, 8 Contacts, Header, 2213S Series, Through Hole, 2 Rows; TOLERANCE: -NA-; VALUE: HDR8; DISTRIBUTOR #: 08N6790; DISTRIBUTOR: Future; EE_SPEC: -NA-
footprint HDR2X4 (Connector; Header; 4x2 Position)
signal-integrity model Connector
footprint HDR2X4 (Connector; Header; 4x2 Position)
pins: 1, 2, 3, 4, 5, 6, 7, 8

## Header 5x1 Female
designator J?
Header 5Pin 1Row T-Hole; MANUFACTURER #: 2212S-05SG-85; MANUFACTURER: Multicomp; PART: CONN 5Pin 1Row 0.1"; PART DESCRIPTION: MULTICOMP  2211S-05G  Board-To-Board Connector, 2.54 mm, 5 Contacts, Header, 2211S Series, Through Hole, 1 Rows; TOLERANCE: -NA-; VALUE: HDR5; DISTRIBUTOR #: 08N6771; DISTRIBUTOR: Newark; EE_SPEC: -NA-
footprint HDR1X5
pins: 1, 2, 3, 4, 5

## Header 5X2
designator J?
Header, 5-Pin, Dual row; MANUFACTURER #: 2213S-10G; MANUFACTURER: Multicomp; PART: CONN 10Pin 2Row 0.1"; PART DESCRIPTION: Board-To-Board Connector, 2.54 mm, 10 Contacts, Header, 2213S Series, Through Hole, 2 Rows; TOLERANCE: -NA-; VALUE: HDR10; DISTRIBUTOR #: 08N6791; DISTRIBUTOR: Future; EE_SPEC: -NA-
footprint HDR2X5 (Connector; Header; 5x2 Position)
signal-integrity model Connector
pins: 1, 2, 3, 4, 5, 6, 7, 8, 9, 10

## Header 5X2_w/ THIEVING
designator J?
Header, 5-Pin, Dual row; MANUFACTURER #: 2213S-10G; MANUFACTURER: Multicomp; PART: CONN 10Pin 2Row 0.1"; PART DESCRIPTION: Board-To-Board Connector, 2.54 mm, 10 Contacts, Header, 2213S Series, Through Hole, 2 Rows; TOLERANCE: -NA-; VALUE: HDR10; DISTRIBUTOR #: 08N6791; DISTRIBUTOR: Future; EE_SPEC: -NA-
footprint HDR2X5_THEIVING (Connector; Header; 5x2 Position)
signal-integrity model Connector
pins: 1, 2, 3, 4, 5, 6, 7, 8, 9, 10

## Header 6x1 Female
designator J?
Header 6Pin 1Row T-Hole; MANUFACTURER #: 2212S-06SG-85; MANUFACTURER: Multicomp; PART: CONN 6Pin 1Row 0.1"; PART DESCRIPTION: MULTICOMP  2211S-06G  Board-To-Board Connector, 2.54 mm, 5 Contacts, Header, 2211S Series, Through Hole, 1 Rows; TOLERANCE: -NA-; VALUE: HDR5; DISTRIBUTOR #: 08N6772; DISTRIBUTOR: Newark; EE_SPEC: -NA-
footprint HDR1X6
pins: 1, 2, 3, 4, 5, 6

## Header 8x1 Female
designator J?, comment HDR8
Header 8Pin 1Row FML T-Hole; MANUFACTURER #: 2212S-08SG-85; MANUFACTURER: Multicomp; PART: CONN 8Pin 1Row 0.1" FML; PART DESCRIPTION: 2212S-08SG-85 -  Board-To-Board Connector, 2.54 mm, 8 Contacts, Receptacle, 2212S Series, Through Hole, 1 Rows; TOLERANCE: -NA-; DISTRIBUTOR #: 08N6773; DISTRIBUTOR: Newark; VALUE: HDR8; EE_SPEC: -NA-
footprint HDR1X8
pins: 1, 2, 3, 4, 5, 6, 7, 8

## Header 10PIN 2ROW T-HOLE VERT SHROUDED
designator J?, comment HDR10
CONN HEADER VERT 10POS GOLD; MANUFACTURER #: 302-S101; MANUFACTURER: On Shore; PART DESCRIPTION: 10 Positions Header Connector 0.100" (2.54mm) Through Hole Gold; TOLERANCE: -NA-; DISTRIBUTOR #: ED1543-ND; DISTRIBUTOR: Digikey; PART: HDR10; VALUE: HDR10; EE_SPEC: -NA-
footprint HDR2X5 IDC (Connector; Header; 5x2 Position)
pins: 1, 2, 3, 4, 5, 6, 7, 8, 9, 10

## Header 10x1 Female
designator J?, comment HDR10
Header 10Pin 1Row FML T-Hole; MANUFACTURER #: 2212S-10SG-85; MANUFACTURER: Multicomp; PART: CONN 10Pin 1Row 0.1" FML; PART DESCRIPTION: 2212S-10SG-85 -  Board-To-Board Connector, 2.54 mm, 10 Contacts, Receptacle, 2212S Series, Through Hole, 1 Rows; TOLERANCE: -NA-; DISTRIBUTOR #: 08N6774; DISTRIBUTOR: Newark; VALUE: HDR10; EE_SPEC: -NA-
footprint HDR1X10
pins: 1, 2, 3, 4, 5, 6, 7, 8, 9, 10

## Header 12X2
designator J?
Header, 12-Pin, Dual row; MANUFACTURER #: 2213S-24G; MANUFACTURER: Multicomp; PART: CONN 24Pin 2Row 0.1"; PART DESCRIPTION: Board-To-Board Connector, 2.54 mm, 24 Contacts, Header, 2213S Series, Through Hole, 2 Rows; TOLERANCE: -NA-; VALUE: HDR24; DISTRIBUTOR #: 08N6796; DISTRIBUTOR: Future; EE_SPEC: -NA-
footprint HDR2X12 (Connector; Header; 12x2 Position)
signal-integrity model Connector
pins: 1, 2, 3, 4, 5, 6, 7, 8, 9, 10, 11, 12, 13, 14, 15, 16, 17, 18, 19, 20, 21, 22, 23, 24

## Header FM 10PIN 2ROW T-HOLE VERT
designator J?, comment HDR10
CONN FM HEADER VERT 10POS GOLD; MANUFACTURER #: 2214S-10SG-85; MANUFACTURER: Multicomp; PART DESCRIPTION: 2.54mm pitch, double row PCB socket; TOLERANCE: -NA-; DISTRIBUTOR #: 08N6807; DISTRIBUTOR: Newark; PART: HDR10; VALUE: HDR10; EE_SPEC: -NA-
footprint HDR2X5_PLUG (Connector; Header; 5x2 Position)
pins: 1, 2, 3, 4, 5, 6, 7, 8, 9, 10

## Micro-Fit THT 2pos 3mm
designator J?, comment 43045-0212
Conn - 3mm Pitch Fixed; MANUFACTURER: Molex; Part Description: Micro-Fit THT 2pos 3mm; EE_SPEC: 600V 8A 3mm; Value: 43045-0212; MANUFACTURER #: 43045-0212; PART: 43045-0212
footprint 43045-0212 (Micro-Fit Through Hole 2pos 0.118" (3.00mm))
pins: 1 4 (power) "1", 2 (power) "1"

## Micro-Fit THT 4pos 3mm
designator J?, comment 43045-0412
Conn - 3mm Pitch Fixed; MANUFACTURER: Molex; Part Description: Micro-Fit THT 4pos 3mm; EE_SPEC: 600V 8A 3mm; Value: 43045-0412; MANUFACTURER #: 43045-0412; PART: 43045-0412
footprint 43045-0412 (Micro-Fit Through Hole 4pos 0.118" (3.00mm))
pins: 1 4 (power) "1", 2 (power) "1", 3 (power) "1", 4 1 (power)

## Micro-Fit THT 6pos 3mm
designator J?, comment 0430450612
Conn - 3mm Pitch Fixed; MANUFACTURER: Molex; Part Description: Micro-Fit THT 6pos 3mm; EE_SPEC: 600V 8A 3mm; Value: 0430450612; MANUFACTURER #: 0430450612; PART: 0430450612
footprint 43045-0612 (Micro-Fit Through Hole 6pos 0.118" (3.00mm))
pins: 1 (power), 2 (power) "1", 3 (power) "1", 4 (power) "1", 5 (power) "1", 6 (power) "1"

## Micro-Fit THT 16pos 3mm
designator J?, comment 0430451612
Conn - 3mm Pitch Fixed; MANUFACTURER: Molex; Part Description: Micro-Fit THT 16pos 3mm; EE_SPEC: 600V 8A 3mm; Value: 0430451612; MANUFACTURER #: 0430451612; PART: 0430451612
footprint 43045-1612 (Micro-Fit Through Hole 6pos 0.118" (3.00mm))
pins: 1 (power), 2 (power) "1", 3 (power) "1", 4 (power) "1", 5 (power) "1", 6 (power) "1", 7 (power) "1", 8 (power) "1", 9 (power) "1", 10 (power) "1", 11 (power) "1", 12 (power) "1", 13 (power) "1", 14 (power) "1", 15 (power) "1", 16 (power) "1"

## Molex 0705430003 Alt_1
designator J?, comment Molex 0705430003  (value not drawn)
Molex 4 Pin Clip Connector
footprint 4POL254
pins: 1, 2, 3, 4

## Molex 0705430003 PIP
designator J?, comment Molex 0705430038  (value not drawn)
Molex 4 Pin Clip Connector - Pin In Paste footprint
footprint 4POL254 PIN-IN-PASTE
pins: 1, 2, 3, 4

## MSTBH6
designator J?  (value not drawn)
PHOENIX; MANUFACTURER: Molex; MANUFACTURER #: 39532-1006; PART: 6 Pin Conn RA; PART DESCRIPTION: 6 Position Terminal Block Header, Male Pins, Shrouded (4 Side) 0.200" (5.08mm) 90°, Right Angle Through Hole; TOLERANCE: -NA-; VALUE: HDR6; DISTRIBUTOR #: WM7849-ND; DISTRIBUTOR: Digikey; EE_SPEC: -NA-
footprint MSTBH6 (Pluggable terminal block-5.08mm pitch - Horizontal)
pins: 1, 2, 3, 4, 5, 6

## PINHD-2X3
designator J?
CONN HEADER VERT 6POS GOLD; Manufacturer: MultiComp; MANUFACTURER #: 2213S-06G; PART: 6PIN; Part Description: 6 Positions Header Connector 0.100" (2.54mm) Through Hole Gold; EE_SPEC: 10Pin 2Row 0.1" T-Hole; Tolerance: NA; VALUE: 6PIN; DISTRIBUTOR #: 08N6789; DISTRIBUTOR: Newark
footprint 2X03
pins: 1, 2, 3, 4, 5, 6

## POGOPIN P100 2.5mm Receptacle
designator TP?, comment R100-2S  (value not drawn)
POGOPIN P100 Receptacle 2.5mm Height; PART: R100-2S
footprint R100-2S_w_P100-B1 (PogoPins P100 socket 5mm)
pins: 1

## POGOPIN P100 5mm Receptacle
designator TP?, comment R100-3S  (value not drawn)
POGOPIN P100 Receptacle 5mm Height; PART: R100-3S
footprint R100-3S_w_P100-B1 (PogoPins P100 socket 5mm)
pins: 1

## POGOPIN P100 7.5mm Receptacle
designator TP?, comment R100-4S  (value not drawn)
POGOPIN P100 Receptacle 7.5mm Height; PART: R100-4S
footprint PogoPins P100 socket (PogoPins P100 socket Bottom/Solder)
pins: 1

## RJ45 Vertical Shielded
designator J?, comment SS-650810S-A-FLS
CONN MOD JACK 8P8C VERT SHLD; Manufacturer: Stewart; Part Description: Jack Modular Connector 8p8c (RJ45, Ethernet) Vertical Shielded; MANUFACTURER #: SS-650810S-A-FLS; PART: SS-650810S-A-FLS
footprint SS-650810S-A-FLS (CONN MOD JACK 8P8C VERT SHLD)
pins: 1 (power), 2 (power) "1", 3 (power) "1", 4 (power) "1", 5 (power) "1", 6 (power) "1", 7 (power) "1", 8 (power) "1", 9 (power) "1", 10 (power) "1"

## SD_MICRO_TF01AZ
designator J?
microSD TF01AZ; MANUFACTURER: WINPIN/XUNWANG; PART: CONN Micro SD; PART DESCRIPTION: 9Pin Push-Push; TOLERANCE: -NA-; VALUE: microSD Conn; EE_SPEC: -NA-
footprint SD_MICRO TF01AZ
pins: 1 DAT2, 2 CD/DAT3, 3 CMD, 4 VDD, 5 CLK, 6 VSS, 7 DAT0, 8 DAT1, 9 CD, 10 SH

## SFW10R-1
designator J?
CONN FFC BOTTOM 10POS 1.00MM R/A; MANUFACTURER #: SFW10R-1STE1LF; MANUFACTURER: Amphenol FCI; Part Description: 10 Position FFC, FPC Connector Contacts, Bottom 0.039" (1.00mm) Surface Mount, Right Angle; EE_SPEC: 1A_max per pin; Tolerance: NA; DISTRIBUTOR #: 609-1897-2-ND; DISTRIBUTOR: Digi-Key; PART: SFW10R-1; VALUE: SFW10R-1
footprint SFW10R-1
pins: 1, 2, 3, 4, 5, 6, 7, 8, 9, 10, S1, S2
text: BOTTOM CONTACTS

## SFW24R-1
designator J?
CONN FFC BOTTOM 24POS 1.00MM R/A; MANUFACTURER #: SFW24R-1STE1LF; MANUFACTURER: Amphenol FCI; Part Description: 24 Position FFC, FPC Connector Contacts, Bottom 0.039" (1.00mm) Surface Mount, Right Angle; EE_SPEC: 1A_max per pin; Tolerance: NA; DISTRIBUTOR #: 609-1919-2-ND; DISTRIBUTOR: Digi-Key; PART: SFW24R-1; VALUE: SFW24R-1
footprint SFW24R-1
pins: 1, 2, 3, 4, 5, 6, 7, 8, 9, 10, 11, 12, 13, 14, 15, 16, 17, 18, 19, 20, 21, 22, 23, 24, S1, S2
text: BOTTOM CONTACTS

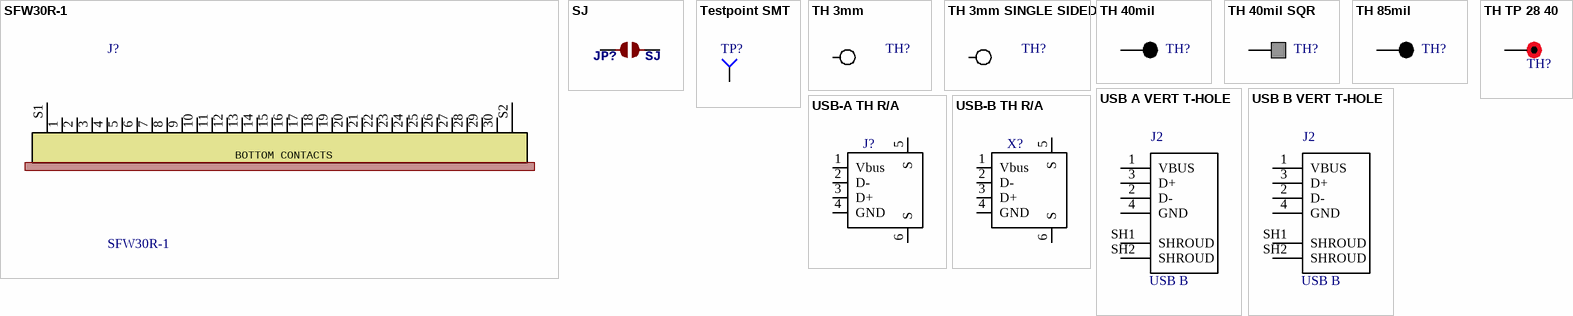
[diagram p2: symbols SFW30R-1 to USB-B TH R/A]

## SFW30R-1
designator J?
CONN FFC BOTTOM 30POS 1.00MM R/A; MANUFACTURER #: SFW30R-1STE1LF; MANUFACTURER: Amphenol FCI; Part Description: 30 Position FFC, FPC Connector Contacts, Bottom 0.039" (1.00mm) Surface Mount, Right Angle; EE_SPEC: 1A_max per pin; Tolerance: NA; DISTRIBUTOR #: 609-1926-1-ND; DISTRIBUTOR: Digi-Key; PART: SFW30R-1; VALUE: SFW30R-1
footprint SFW30R-1
pins: 1, 2, 3, 4, 5, 6, 7, 8, 9, 10, 11, 12, 13, 14, 15, 16, 17, 18, 19, 20, 21, 22, 23, 24, 25, 26, 27, 28, 29, 30, S1, S2
text: BOTTOM CONTACTS

## SJ
designator JP?  (no BOM)
SMD solder jumper; MANUFACTURER #: NOTAPART-Solder Bridge
footprint SJ
pins: 1, 2

## Testpoint SMT
designator TP?, comment NOTAPART-Testpoint  (value not drawn)  (no BOM)
Testpoint SMT; MANUFACTURER #: NOTAPART-Testpoint
signal-integrity model Connector
footprint TP-2
pins: 1

## TH 3mm
designator TH?, comment TH  (value not drawn)
THRUHOLE 3mm; MANUFACTURER #: NOTAPART-THRUHOLE
footprint Wave_hole_3x7-doubleSided
pins: 1

## TH 3mm SINGLE SIDED
designator TH?, comment TH  (value not drawn)
THRUHOLE 3mm; MANUFACTURER #: NOTAPART-THRUHOLE; PART: THRUHOLE
footprint HOLE 3mm SINGLE SIDED
pins: 1

## TH 40mil
designator TH?, comment TH  (value not drawn)  (no BOM)
THRUHOLE 40mil; PART: THRUHOLE; COST: NA
footprint TH_40
pins: 1

## TH 40mil SQR
designator TH?, comment TH  (value not drawn)  (no BOM)
THRUHOLE 40mil; PART: THRUHOLE; COST: NA
footprint TH_40_SQR
pins: 1

## TH 85mil
designator TH?, comment TH  (value not drawn)  (no BOM)
THRUHOLE 85mil; PART: THRUHOLE; COST: NA
footprint TP_80_150
pins: 1

## TH TP 28 40
designator TH?, comment TP  (value not drawn)
TESTPOINT 28 40; PART: TESTPOINT; COST: NA
footprint TH_28
pins: 1

## USB A VERT T-HOLE
designator J2, comment USB B
CONN RCPT USB TYPE A VERT GOLD; MANUFACTURER: Amphenol; MANUFACTURER #: UE27AE54100; PART: USB B; DISTRIBUTOR: Digikey; DISTRIBUTOR #: UE27AE54100-ND
footprint USB-A-VERT_TH
pins: 1 VBUS, 2 D-, 3 D+, 4 GND, SH1 SHROUD, SH2 SHROUD

## USB B VERT T-HOLE
designator J2, comment USB B
USB JACK 2.0, STANDARD B TYPE, 4; MANUFACTURER: CUI; MANUFACTURER #: UJ2-BV-1-TH; PART: USB B; DISTRIBUTOR: Digikey; DISTRIBUTOR #: 102-4000-ND; COST: 0.54 @ 100pcs
footprint USB B VERT
pins: 1 VBUS, 2 D-, 3 D+, 4 GND, SH1 SHROUD, SH2 SHROUD

## USB-A TH R/A
designator J?, comment USB-A  (value not drawn)
CONN RCPT USB TYPE A R/A GOLD; MANUFACTURER: Amphenol; MANUFACTURER #: UE27AC54100; Part Description: USB - A USB 2.0 Receptacle Connector 4 Position Through Hole, Right Angle; EE_SPEC: USB-A T-Hole R/A; Tolerance: NA; DISTRIBUTOR #: UE27AC54100-ND; DISTRIBUTOR: Digi-Key; PART: CONN RCPT USB TYPE A R/A GOLD; VALUE: USB-A
footprint USB_A_T-HOLE_RA
pins: 1 Vbus, 2 D-, 3 D+, 4 GND, 5 S, 6 S

## USB-B TH R/A
designator X?  (value not drawn)
USB connector B PTH; MANUFACTURER: FCI; MANUFACTURER #: 61729-0010BLF; Part Description: USB - B USB 2.0 Receptacle Connector 4 Position Through Hole, Right Angle; EE_SPEC: USB-B T-Hole R/A; Tolerance: NA; DISTRIBUTOR #: 609-1039-ND; DISTRIBUTOR: Digi-Key; PART: USB-B; VALUE: USB-B
footprint PN61729_ALT
pins: 1 Vbus, 2 D-, 3 D+, 4 GND, 5 S, 6 S